# EAGLE library part SYAS-1 (library minicirNew)
MiniCircuits voltage variable attenuator
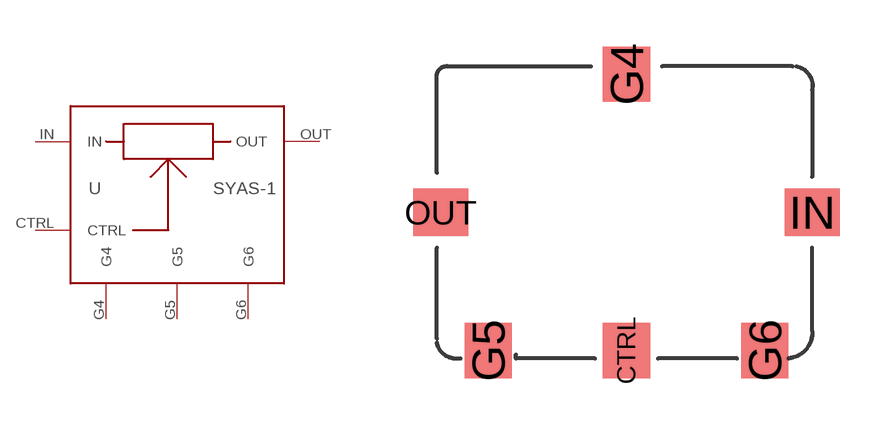
[diagram p8: symbol with the pads of TTT166; footprint TTT166]

Designator prefix -

## SYAS-1  [TTT166]
CTRL  CTRL  in
G4  G4  sup
G5  G5  sup
G6  G6  sup
IN  IN  in
OUT  OUT  out

## Footprint TTT166 (pad centres in mm)
MiniCircuits TTT166/167 package
smd 1.524 x 1.778: CTRL 0,-4.445; G4 0,4.445; G5 -4.445,-4.445; G6 4.445,-4.445
smd 1.778 x 1.524: IN 5.969,0; OUT -5.969,0